# EAGLE library part ADS1100 (library anton)
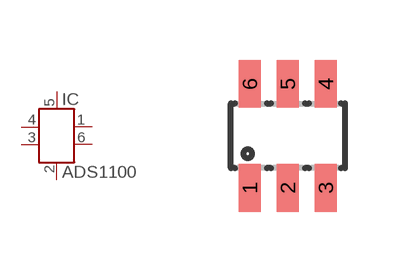
[diagram p15: symbol with the pads of SOT23-6L; footprint SOT23-6L]

Designator prefix IC

## ADS1100  [SOT23-6L]
1  VIN+
2  GND
3  SCL
4  SDA
5  VDD
6  VIN-

## Footprint SOT23-6L (pad centres in mm)
Small Outline Transistor
smd 0.55 x 1.2: 1 -0.95,-1.3; 2 0,-1.3; 3 0.95,-1.3; 4 0.95,1.3; 5 0,1.3; 6 -0.95,1.3